# Altium schematic symbol library XC6SLX9-TQG144P.Schlib: 1 symbol
Pins are listed as number, name and electrical type; pins without a type are passive.

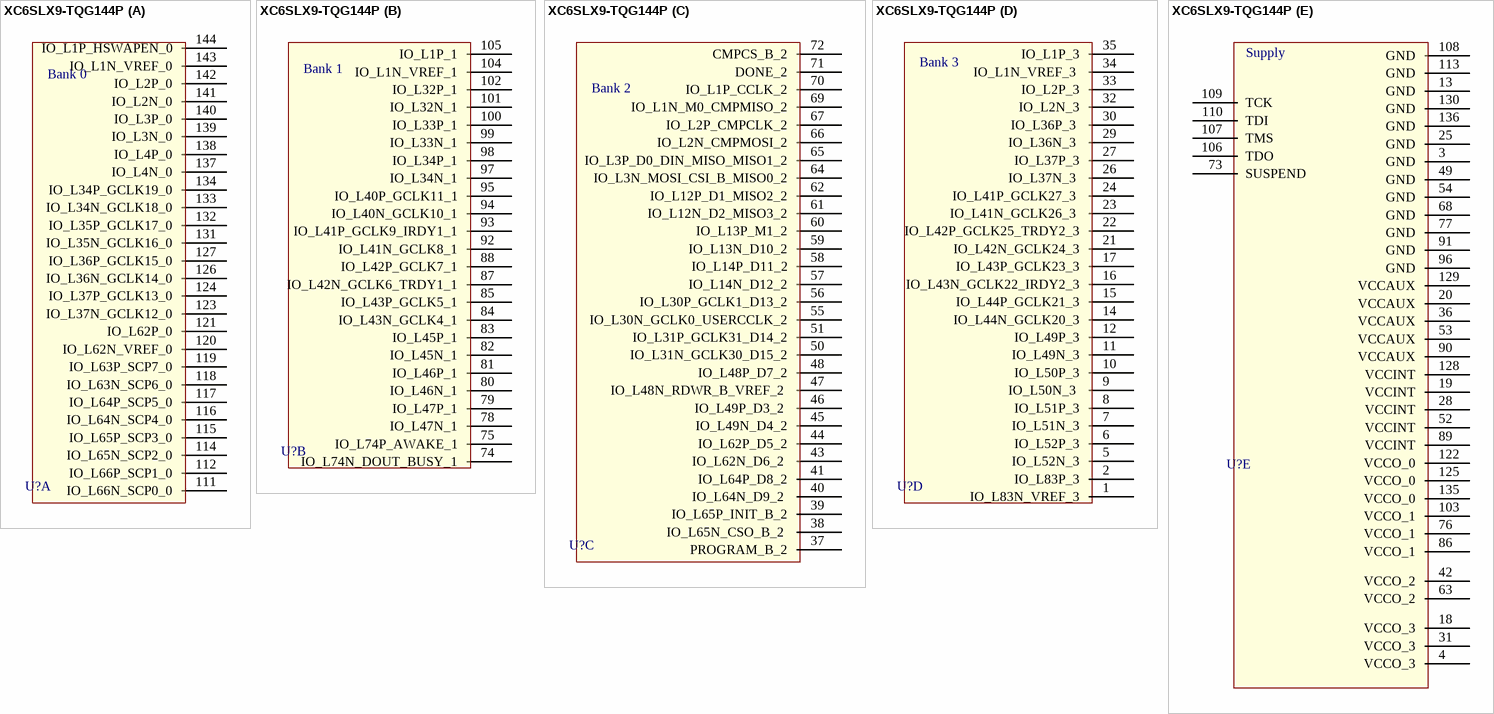
[diagram p0: symbol XC6SLX9-TQG144P]

## XC6SLX9-TQG144P
designator U?  (value not drawn)
part A pins: 111 IO_L66N_SCP0_0, 112 IO_L66P_SCP1_0, 114 IO_L65N_SCP2_0, 115 IO_L65P_SCP3_0, 116 IO_L64N_SCP4_0, 117 IO_L64P_SCP5_0, 118 IO_L63N_SCP6_0, 119 IO_L63P_SCP7_0, 120 IO_L62N_VREF_0, 121 IO_L62P_0, 123 IO_L37N_GCLK12_0, 124 IO_L37P_GCLK13_0, 126 IO_L36N_GCLK14_0, 127 IO_L36P_GCLK15_0, 131 IO_L35N_GCLK16_0, 132 IO_L35P_GCLK17_0, 133 IO_L34N_GCLK18_0, 134 IO_L34P_GCLK19_0, 137 IO_L4N_0, 138 IO_L4P_0, 139 IO_L3N_0, 140 IO_L3P_0, 141 IO_L2N_0, 142 IO_L2P_0, 143 IO_L1N_VREF_0, 144 IO_L1P_HSWAPEN_0
part B pins: 74 IO_L74N_DOUT_BUSY_1, 75 IO_L74P_AWAKE_1, 78 IO_L47N_1, 79 IO_L47P_1, 80 IO_L46N_1, 81 IO_L46P_1, 82 IO_L45N_1, 83 IO_L45P_1, 84 IO_L43N_GCLK4_1, 85 IO_L43P_GCLK5_1, 87 IO_L42N_GCLK6_TRDY1_1, 88 IO_L42P_GCLK7_1, 92 IO_L41N_GCLK8_1, 93 IO_L41P_GCLK9_IRDY1_1, 94 IO_L40N_GCLK10_1, 95 IO_L40P_GCLK11_1, 97 IO_L34N_1, 98 IO_L34P_1, 99 IO_L33N_1, 100 IO_L33P_1, 101 IO_L32N_1, 102 IO_L32P_1, 104 IO_L1N_VREF_1, 105 IO_L1P_1
part C pins: 37 PROGRAM_B_2, 38 IO_L65N_CSO_B_2 , 39 IO_L65P_INIT_B_2, 40 IO_L64N_D9_2 , 41 IO_L64P_D8_2, 43 IO_L62N_D6_2 , 44 IO_L62P_D5_2, 45 IO_L49N_D4_2, 46 IO_L49P_D3_2 , 47 IO_L48N_RDWR_B_VREF_2 , 48 IO_L48P_D7_2, 50 IO_L31N_GCLK30_D15_2, 51 IO_L31P_GCLK31_D14_2, 55 IO_L30N_GCLK0_USERCCLK_2, 56 IO_L30P_GCLK1_D13_2, 57 IO_L14N_D12_2, 58 IO_L14P_D11_2, 59 IO_L13N_D10_2, 60 IO_L13P_M1_2, 61 IO_L12N_D2_MISO3_2, 62 IO_L12P_D1_MISO2_2, 64 IO_L3N_MOSI_CSI_B_MISO0_2, 65 IO_L3P_D0_DIN_MISO_MISO1_2, 66 IO_L2N_CMPMOSI_2, 67 IO_L2P_CMPCLK_2, 69 IO_L1N_M0_CMPMISO_2, 70 IO_L1P_CCLK_2, 71 DONE_2, 72 CMPCS_B_2
part D pins: 1 IO_L83N_VREF_3, 2 IO_L83P_3, 5 IO_L52N_3, 6 IO_L52P_3, 7 IO_L51N_3, 8 IO_L51P_3, 9 IO_L50N_3 , 10 IO_L50P_3, 11 IO_L49N_3, 12 IO_L49P_3, 14 IO_L44N_GCLK20_3, 15 IO_L44P_GCLK21_3, 16 IO_L43N_GCLK22_IRDY2_3, 17 IO_L43P_GCLK23_3, 21 IO_L42N_GCLK24_3, 22 IO_L42P_GCLK25_TRDY2_3, 23 IO_L41N_GCLK26_3 , 24 IO_L41P_GCLK27_3 , 26 IO_L37N_3 , 27 IO_L37P_3, 29 IO_L36N_3 , 30 IO_L36P_3 , 32 IO_L2N_3, 33 IO_L2P_3, 34 IO_L1N_VREF_3 , 35 IO_L1P_3
part E pins: 3 GND, 4 VCCO_3, 13 GND, 18 VCCO_3, 19 VCCINT, 20 VCCAUX, 25 GND, 28 VCCINT, 31 VCCO_3, 36 VCCAUX, 42 VCCO_2, 49 GND, 52 VCCINT, 53 VCCAUX, 54 GND, 63 VCCO_2, 68 GND, 73 SUSPEND, 76 VCCO_1, 77 GND, 86 VCCO_1, 89 VCCINT, 90 VCCAUX, 91 GND, 96 GND, 103 VCCO_1, 106 TDO, 107 TMS, 108 GND, 109 TCK, 110 TDI, 113 GND, 122 VCCO_0, 125 VCCO_0, 128 VCCINT, 129 VCCAUX, 130 GND, 135 VCCO_0, 136 GND
part A text: Bank 0
part B text: Bank 1
part C text: Bank 2
part D text: Bank 3
part E text: Supply